# EAGLE library part F15?S (library FansElectronics-Con-DB)
SUB-D
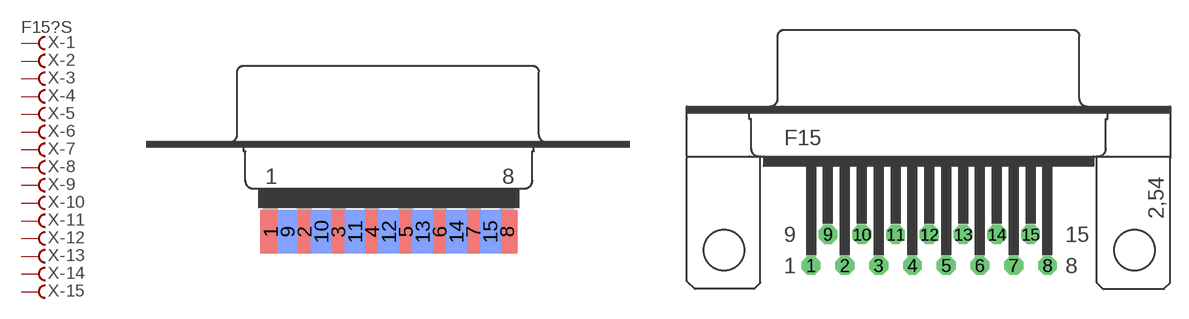
[diagram p61: symbol with the pads of F15D; footprints F15D, F15H]

Designator prefix X; gates -1=FV -2=F -3=F -4=F -5=F -6=F -7=F -8=F -9=F -10=F -11=F -12=F -13=F -14=F -15=F

## F15DS (OC_FARNELL: unknown; OC_NEWARK: unknown)  [F15D]
1  -1:F  pas
2  -2:F  pas
3  -3:F  pas
4  -4:F  pas
5  -5:F  pas
6  -6:F  pas
7  -7:F  pas
8  -8:F  pas
9  -9:F  pas
10  -10:F  pas
11  -11:F  pas
12  -12:F  pas
13  -13:F  pas
14  -14:F  pas
15  -15:F  pas

## F15HS (OC_FARNELL: unknown; OC_NEWARK: unknown)  [F15H]
Pads as for F15D

## F15HPS (OC_FARNELL: unknown; OC_NEWARK: unknown)  [F15HP]
Pads as for F15D

## F15VS (OC_FARNELL: unknown; OC_NEWARK: unknown)  [F15V]
Pads as for F15D

## F15VPS (OC_FARNELL: unknown; OC_NEWARK: unknown)  [F15VP]
Pads as for F15D

## F15HDHS (OC_FARNELL: unknown; OC_NEWARK: unknown)  [HDF15H]
Pads as for F15D

## F15HDVS (OC_FARNELL: unknown; OC_NEWARK: unknown)  [HDF15V]
Pads as for F15D

## F15VBS (OC_FARNELL: unknown; OC_NEWARK: unknown)  [F15VB]
Pads as for F15D

## F15.590S (OC_FARNELL: unknown; OC_NEWARK: unknown)  [177-015-212-FEMALE]
Pads as for F15D

## Footprint F15D (pad centres in mm)
SUB-D
smd 1.7 x 3.5: 1 -9.601,-6.045; 2 -6.858,-6.045; 3 -4.115,-6.045; 4 -1.372,-6.045; 5 1.372,-6.045; 6 4.115,-6.045; 7 6.858,-6.045; 8 9.601,-6.045
smd 1.7 x 3.5 bottom: 9 -8.23,-6.045; 10 -5.486,-6.045; 11 -2.743,-6.045; 12 0,-6.045; 13 2.743,-6.045; 14 5.486,-6.045; 15 8.23,-6.045

## Footprint F15H (pad centres in mm)
SUB-D
drill 1.016 octagon: 1 -9.601,-1.27; 2 -6.858,-1.27; 3 -4.115,-1.27; 4 -1.372,-1.27; 5 1.372,-1.27; 6 4.115,-1.27; 7 6.858,-1.27; 8 9.601,-1.27; 9 -8.23,1.27; 10 -5.486,1.27; 11 -2.743,1.27; 12 0,1.27; 13 2.743,1.27; 14 5.486,1.27; 15 8.23,1.27
hole 3.302 at -16.662,0
hole 3.302 at 16.662,0

## Footprint F15HP (pad centres in mm)
SUB-D
drill 1.016 octagon: 1 -9.601,-1.27; 2 -6.858,-1.27; 3 -4.115,-1.27; 4 -1.372,-1.27; 5 1.372,-1.27; 6 4.115,-1.27; 7 6.858,-1.27; 8 9.601,-1.27; 9 -8.23,1.27; 10 -5.486,1.27; 11 -2.743,1.27; 12 0,1.27; 13 2.743,1.27; 14 5.486,1.27; 15 8.23,1.27
drill 3.302 pad 5.08: G1 -16.662,0; G2 16.662,0

## Footprint F15V (pad centres in mm)
SUB-D
drill 1.016 octagon: 1 9.601,1.422; 2 6.858,1.422; 3 4.115,1.422; 4 1.372,1.422; 5 -1.372,1.422; 6 -4.115,1.422; 7 -6.858,1.422; 8 -9.601,1.422; 9 8.23,-1.422; 10 5.486,-1.422; 11 2.743,-1.422; 12 0,-1.422; 13 -2.743,-1.422; 14 -5.486,-1.422; 15 -8.23,-1.422
hole 3.302 at 16.662,0
hole 3.302 at -16.662,0

## Footprint F15VP (pad centres in mm)
SUB-D
drill 1.016 octagon: 1 9.601,1.422; 2 6.858,1.422; 3 4.115,1.422; 4 1.372,1.422; 5 -1.372,1.422; 6 -4.115,1.422; 7 -6.858,1.422; 8 -9.601,1.422; 9 8.23,-1.422; 10 5.486,-1.422; 11 2.743,-1.422; 12 0,-1.422; 13 -2.743,-1.422; 14 -5.486,-1.422; 15 -8.23,-1.422
drill 3.302 pad 5.08: G1 -16.662,0; G2 16.662,0

## Footprint HDF15H (pad centres in mm)
SUB-D
drill 0.9 octagon: 1 4.329,2.54
drill 0.9: 2 2.043,2.54; 3 -0.243,2.54; 4 -2.529,2.54; 5 -4.815,2.54; 6 5.472,0; 7 3.186,0; 8 0.9,0; 9 -1.386,0; 10 -3.672,0; 11 4.329,-2.54; 12 2.043,-2.54; 13 -0.243,-2.54; 14 -2.529,-2.54; 15 -4.815,-2.54
hole 3 at -12.5,0
hole 3 at 12.5,0

## Footprint HDF15V (pad centres in mm)
SUB-D
drill 0.9 octagon: 1 4.329,1.98
drill 0.9: 2 2.043,1.98; 3 -0.243,1.98; 4 -2.529,1.98; 5 -4.815,1.98; 6 5.472,0; 7 3.186,0; 8 0.9,0; 9 -1.386,0; 10 -3.672,0; 11 4.329,-1.98; 12 2.043,-1.98; 13 -0.243,-1.98; 14 -2.529,-1.98; 15 -4.815,-1.98
hole 3 at -12.5,0
hole 3 at 12.5,0

## Footprint F15VB (pad centres in mm)
SUB-D
drill 1.016 octagon: 1 -9.601,-1.422; 2 -6.858,-1.422; 3 -4.115,-1.422; 4 -1.372,-1.422; 5 1.372,-1.422; 6 4.115,-1.422; 7 6.858,-1.422; 8 9.601,-1.422; 9 -8.23,1.422; 10 -5.486,1.422; 11 -2.743,1.422; 12 0,1.422; 13 2.743,1.422; 14 5.486,1.422; 15 8.23,1.422

## Footprint 177-015-212-FEMALE (pad centres in mm)
NorComp 177 Series (0.590" Foorprint) Female 15 Pol. Source: Digi-Key, subd.pdf
drill 1.194 pad 1.524 octagon: 1 -9.69,-9.84; 2 -6.921,-9.84; 3 -4.153,-9.84; 4 -1.384,-9.84; 5 1.384,-9.84; 6 4.153,-9.84; 7 6.921,-9.84; 8 9.69,-9.84; 9 -8.306,-6.997; 10 -5.537,-6.997; 11 -2.769,-6.997; 12 0,-6.997; 13 2.769,-6.997; 14 5.537,-6.997; 15 8.306,-6.997